# Altium schematic symbol library STM32L071CZY6TR.SchLib: 1 symbol
Pins are listed as number, name and electrical type; pins without a type are passive.

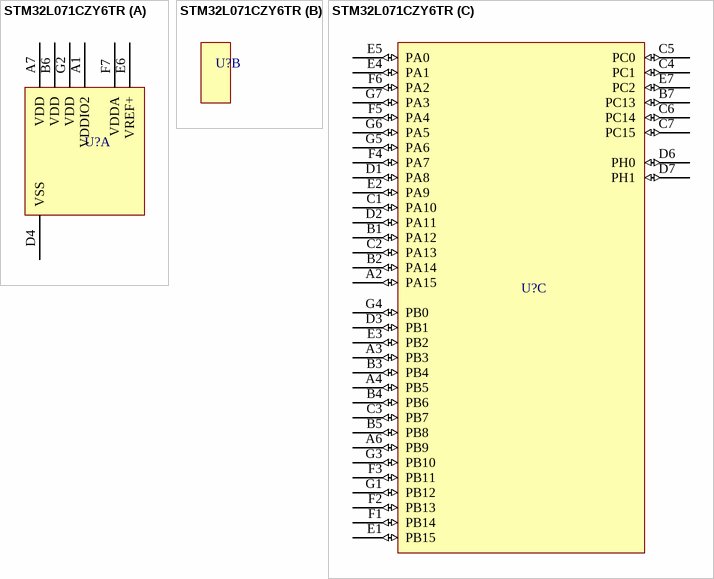
[diagram p0: symbol STM32L071CZY6TR]

## STM32L071CZY6TR
designator U?  (value not drawn)
Ultra-low-power Arm Cortex-M0+ MCU with 192 Kbytes of Flash memory, 32 MHz CPu
part A pins: A1 VDDIO2 (power), A7 VDD (power), B6 VDD (power), D4 VSS (power), E6 VREF+ (power), F7 VDDA (power), G2 VDD (power)
part C pins: A2 PA15 (io), A3 PB3 (io), A4 PB5 (io), A6 PB9 (io), B1 PA12 (io), B2 PA14 (io), B3 PB4 (io), B4 PB6 (io), B5 PB8 (io), B7 PC13 (io), C1 PA10 (io), C2 PA13 (io), C3 PB7 (io), C4 PC1 (io), C5 PC0 (io), C6 PC14 (io), C7 PC15 (io), D1 PA8 (io), D2 PA11 (io), D3 PB1 (io), D6 PH0 (io), D7 PH1 (io), E1 PB15 (io), E2 PA9 (io), E3 PB2 (io), E4 PA1 (io), E5 PA0 (io), E7 PC2 (io), F1 PB14 (io), F2 PB13 (io), F3 PB11 (io), F4 PA7 (io), F5 PA4 (io), F6 PA2 (io), G1 PB12 (io), G3 PB10 (io), G4 PB0 (io), G5 PA6 (io), G6 PA5 (io), G7 PA3 (io)